# EAGLE library part MCP3464RT-E_NC (library MCP3464RT-E_NC)
Analog to Digital Converters - ADC 16-bit delta-sigma ADC w/Vref, Quad channel, 3V Source: Datasheet <https://componentsearchengine.com/Datasheets/2/MCP3464RT-E_NC.pdf>
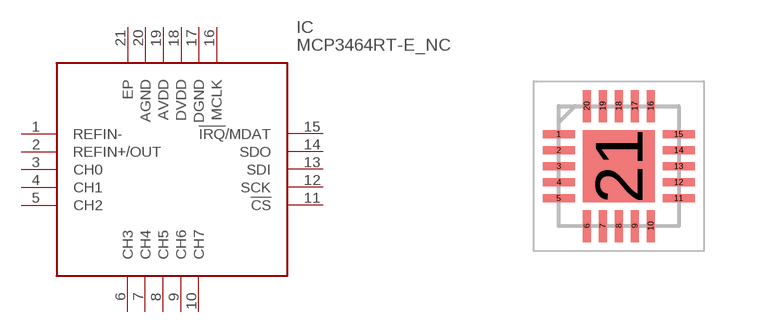
[diagram p0: symbol with the pads of QFN40P300X300X60-21N; footprint QFN40P300X300X60-21N]

Designator prefix IC

## MCP3464RT-E_NC (Description: Analog to Digital Converters - ADC 16-bit delta-sigma ADC w/Vref, Quad channel, 3V; Height: 0.6mm; Manufacturer_Name: Microchip; Manufacturer_Part_Number: MCP3464RT-E/NC; Mouser_Part_Number: 579-MCP3464RT-E/NC; Mouser_Price-Stock: https://www.mouser.co.uk/ProductDetail/Microchip-Technology/MCP3464RT-E-NC?qs=W%2FMpXkg%252BdQ5Ehc3kIRQ52g%3D%3D)  [QFN40P300X300X60-21N]
1  REFIN-
2  REFIN+/OUT
3  CH0
4  CH1
5  CH2
6  CH3
7  CH4
8  CH5
9  CH6
10  CH7
11  !CS
12  SCK
13  SDI
14  SDO
15  !IRQ!/MDAT
16  MCLK
17  DGND
18  DVDD
19  AVDD
20  AGND
21  EP

## Footprint QFN40P300X300X60-21N (pad centres in mm)
20 Lead QFN (NC)-3x3
smd 0.8 x 0.2: 1 -1.5,0.8; 2 -1.5,0.4; 3 -1.5,0; 4 -1.5,-0.4; 5 -1.5,-0.8; 11 1.5,-0.8; 12 1.5,-0.4; 13 1.5,0; 14 1.5,0.4; 15 1.5,0.8
smd 0.2 x 0.8: 6 -0.8,-1.5; 7 -0.4,-1.5; 8 0,-1.5; 9 0.4,-1.5; 10 0.8,-1.5; 16 0.8,1.5; 17 0.4,1.5; 18 0,1.5; 19 -0.4,1.5; 20 -0.8,1.5
smd 1.8 x 1.8: 21 0,0